# Altium integrated library STM32 Blue Pill.IntLib: 2 symbols
Pins are listed as number, name and electrical type; pins without a type are passive.

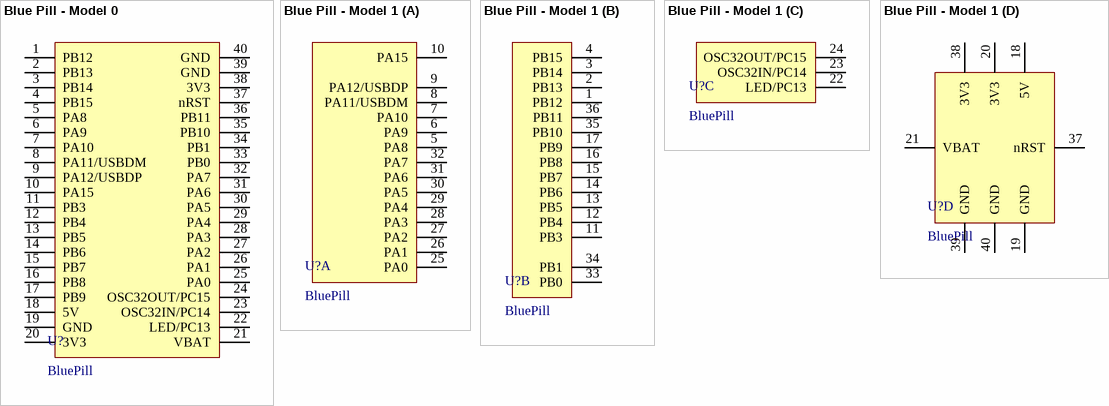
[diagram p0: symbols Blue Pill - Model 0 to Blue Pill - Model 1]

## Blue Pill - Model 0
designator U?, comment BluePill
STM32 Blue Pill
footprint Blue Pill
pins: 1 PB12, 2 PB13, 3 PB14, 4 PB15, 5 PA8, 6 PA9, 7 PA10, 8 PA11/USBDM, 9 PA12/USBDP, 10 PA15, 11 PB3, 12 PB4, 13 PB5, 14 PB6, 15 PB7, 16 PB8, 17 PB9, 18 5V (power), 19 GND (power), 20 3V3, 21 VBAT (power), 22 LED/PC13, 23 OSC32IN/PC14, 24 OSC32OUT/PC15, 25 PA0, 26 PA1, 27 PA2, 28 PA3, 29 PA4, 30 PA5, 31 PA6, 32 PA7, 33 PB0, 34 PB1, 35 PB10, 36 PB11, 37 nRST, 38 3V3 (power), 39 GND (power), 40 GND (power)

## Blue Pill - Model 1
designator U?, comment BluePill
STM32 Blue Pill
footprint Blue Pill
part A pins: 5 PA8, 6 PA9, 7 PA10, 8 PA11/USBDM, 9 PA12/USBDP, 10 PA15, 25 PA0, 26 PA1, 27 PA2, 28 PA3, 29 PA4, 30 PA5, 31 PA6, 32 PA7
part B pins: 1 PB12, 2 PB13, 3 PB14, 4 PB15, 11 PB3, 12 PB4, 13 PB5, 14 PB6, 15 PB7, 16 PB8, 17 PB9, 33 PB0, 34 PB1, 35 PB10, 36 PB11
part C pins: 22 LED/PC13, 23 OSC32IN/PC14, 24 OSC32OUT/PC15
part D pins: 18 5V (power), 19 GND (power), 20 3V3, 21 VBAT (power), 37 nRST, 38 3V3 (power), 39 GND (power), 40 GND (power)